# EAGLE library part ORESAT-CONNECTOR-40PIN (library system-controller)
OreSat 40pin card connector. Uses the Harwin Archer M50-3202045.
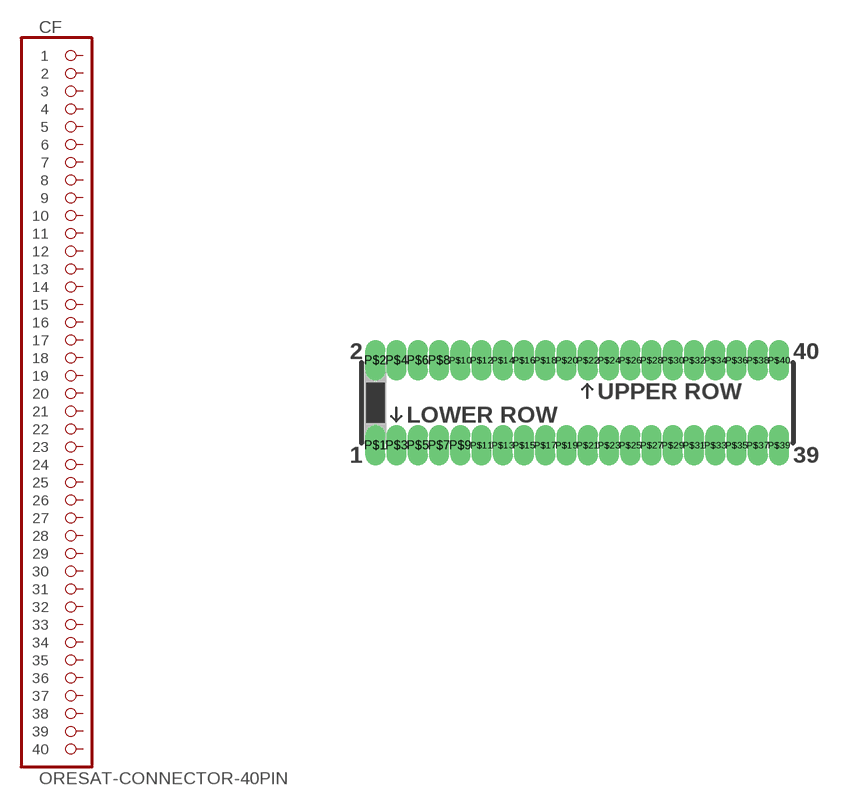
[diagram p4: symbol with the pads of HARWIN-ARCHER-M50-3202045; footprint HARWIN-ARCHER-M50-3202045]

Designator prefix CF

## ORESAT-CONNECTOR-40PIN  [HARWIN-ARCHER-M50-3202045]
P$1  1  pas
P$2  2  pas
P$3  3  pas
P$4  4  pas
P$5  5  pas
P$6  6  pas
P$7  7  pas
P$8  8  pas
P$9  9  pas
P$10  10  pas
P$11  11  pas
P$12  12  pas
P$13  13  pas
P$14  14  pas
P$15  15  pas
P$16  16  pas
P$17  17  pas
P$18  18  pas
P$19  19  pas
P$20  20  pas
P$21  21  pas
P$22  22  pas
P$23  23  pas
P$24  24  pas
P$25  25  pas
P$26  26  pas
P$27  27  pas
P$28  28  pas
P$29  29  pas
P$30  30  pas
P$31  31  pas
P$32  32  pas
P$33  33  pas
P$34  34  pas
P$35  35  pas
P$36  36  pas
P$37  37  pas
P$38  38  pas
P$39  39  pas
P$40  40  pas

## Footprint HARWIN-ARCHER-M50-3202045 (pad centres in mm)
drill 0.7 pad 1.07 long: P$1 -12.065,-2.54; P$2 -12.065,2.54; P$3 -10.795,-2.54; P$4 -10.795,2.54; P$5 -9.525,-2.54; P$6 -9.525,2.54; P$7 -8.255,-2.54; P$8 -8.255,2.54; P$9 -6.985,-2.54; P$10 -6.985,2.54; P$11 -5.715,-2.54; P$12 -5.715,2.54; P$13 -4.445,-2.54; P$14 -4.445,2.54; P$15 -3.175,-2.54; P$16 -3.175,2.54; P$17 -1.905,-2.54; P$18 -1.905,2.54; P$19 -0.635,-2.54; P$20 -0.635,2.54; P$21 0.635,-2.54; P$22 0.635,2.54; P$23 1.905,-2.54; P$24 1.905,2.54; P$25 3.175,-2.54; P$26 3.175,2.54; P$27 4.445,-2.54; P$28 4.445,2.54; P$29 5.715,-2.54; P$30 5.715,2.54; P$31 6.985,-2.54; P$32 6.985,2.54; P$33 8.255,-2.54; P$34 8.255,2.54; P$35 9.525,-2.54; P$36 9.525,2.54; P$37 10.795,-2.54; P$38 10.795,2.54; P$39 12.065,-2.54; P$40 12.065,2.54